# Altium schematic symbol library OPA.SchLib: 3 symbols
Pins are listed as number, name and electrical type; pins without a type are passive.

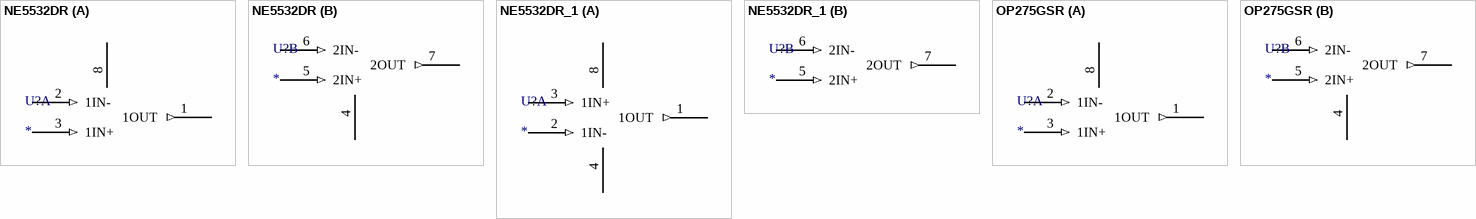
[diagram p0: symbols NE5532DR to OP275GSR]

## NE5532DR
designator U?
Imported; Manufacturer: Texas Instruments; GENERIC_PART_NUMBER: NE5532; INDUSTRY_STD_PKG_TYPE: SOIC; FAMILY_NAME: STANDARD LINEAR AMPLIFIER; PIN_COUNT: 8; PACKAGE_DESIGNATOR: D; Datasheet_URL: http://www.ti.com/lit/gpn/NE5532; Value: Value; Type: Type; RefDes: RefDes
footprint D8
footprint D8-L
footprint D8-M
part A pins: 1 1OUT (out), 2 1IN- (in), 3 1IN+ (in), 8 VCC+ (power)
part B pins: 4 VCC- (power), 5 2IN+ (in), 6 2IN- (in), 7 2OUT (out)

## NE5532DR_1
designator U?
Imported; Manufacturer: Texas Instruments; GENERIC_PART_NUMBER: NE5532; INDUSTRY_STD_PKG_TYPE: SOIC; FAMILY_NAME: STANDARD LINEAR AMPLIFIER; PIN_COUNT: 8; PACKAGE_DESIGNATOR: D; Datasheet_URL: http://www.ti.com/lit/gpn/NE5532; Value: Value; Type: Type; RefDes: RefDes
footprint D8
footprint D8-L
footprint D8-M
part A pins: 1 1OUT (out), 2 1IN- (in), 3 1IN+ (in), 4 VCC- (power), 8 VCC+ (power)
part B pins: 5 2IN+ (in), 6 2IN- (in), 7 2OUT (out)

## OP275GSR
designator U?
Imported; Manufacturer: Texas Instruments; GENERIC_PART_NUMBER: NE5532; INDUSTRY_STD_PKG_TYPE: SOIC; FAMILY_NAME: STANDARD LINEAR AMPLIFIER; PIN_COUNT: 8; PACKAGE_DESIGNATOR: D; Datasheet_URL: http://www.ti.com/lit/gpn/NE5532; Value: Value; Type: Type; RefDes: RefDes
footprint D8
footprint D8-L
footprint D8-M
part A pins: 1 1OUT (out), 2 1IN- (in), 3 1IN+ (in), 8 VCC+ (power)
part B pins: 4 VCC- (power), 5 2IN+ (in), 6 2IN- (in), 7 2OUT (out)